# EAGLE library part TPPM0110DWPR (library 477_LIBRARY)
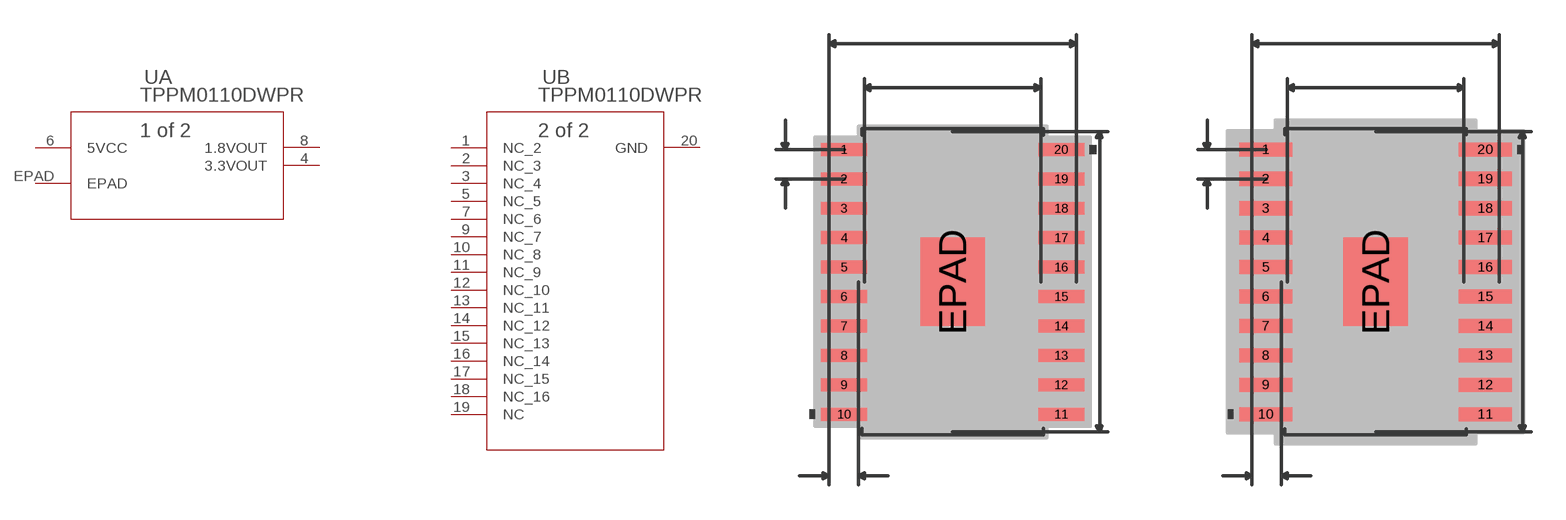
[diagram p3: symbol with the pads of DWP20_3P81X2P79; footprints DWP20_3P81X2P79, DWP20_3P81X2P79-M]

Designator prefix U; gates A=TPPM0110DWPRG4 B=TPPM0110DWPRG4_A

## TPPM0110DWPR (MANUFACTURER_PART_NUMBER: TPPM0110DWPR; VENDOR: Texas Instruments)  [DWP20_3P81X2P79]
1  B:NC_2  pas
2  B:NC_3  pas
3  B:NC_4  pas
4  A:3.3VOUT  out
5  B:NC_5  pas
6  A:5VCC  in
7  B:NC_6  pas
8  A:1.8VOUT  out
9  B:NC_7  pas
10  B:NC_8  pas
11  B:NC_9  pas
12  B:NC_10  pas
13  B:NC_11  pas
14  B:NC_12  pas
15  B:NC_13  pas
16  B:NC_14  pas
17  B:NC_15  pas
18  B:NC_16  pas
19  B:NC  pas
20  B:GND  pwr
EPAD  A:EPAD  pas

## TPPM0110DWPRDWP20_3P81X2P79-M (MANUFACTURER_PART_NUMBER: TPPM0110DWPR; VENDOR: Texas Instruments)  [DWP20_3P81X2P79-M]
Pads as for DWP20_3P81X2P79

## TPPM0110DWPRDWP20_3P81X2P79-L (MANUFACTURER_PART_NUMBER: TPPM0110DWPR; VENDOR: Texas Instruments)  [DWP20_3P81X2P79-L]
Pads as for DWP20_3P81X2P79

## Footprint DWP20_3P81X2P79 (pad centres in mm)
smd 1.981 x 0.559: 1 -4.686,5.715; 2 -4.686,4.445; 3 -4.686,3.175; 4 -4.686,1.905; 5 -4.686,0.635; 6 -4.686,-0.635; 7 -4.686,-1.905; 8 -4.686,-3.175; 9 -4.686,-4.445; 10 -4.686,-5.715; 11 4.686,-5.715; 12 4.686,-4.445; 13 4.686,-3.175; 14 4.686,-1.905; 15 4.686,-0.635; 16 4.686,0.635; 17 4.686,1.905; 18 4.686,3.175; 19 4.686,4.445; 20 4.686,5.715
smd 2.79 x 3.81: EPAD 0,0

## Footprint DWP20_3P81X2P79-M (pad centres in mm)
smd 2.286 x 0.61: 1 -4.737,5.715; 2 -4.737,4.445; 3 -4.737,3.175; 4 -4.737,1.905; 5 -4.737,0.635; 6 -4.737,-0.635; 7 -4.737,-1.905; 8 -4.737,-3.175; 9 -4.737,-4.445; 10 -4.737,-5.715; 11 4.737,-5.715; 12 4.737,-4.445; 13 4.737,-3.175; 14 4.737,-1.905; 15 4.737,-0.635; 16 4.737,0.635; 17 4.737,1.905; 18 4.737,3.175; 19 4.737,4.445; 20 4.737,5.715
smd 2.79 x 3.81: EPAD 0,0

## Footprint DWP20_3P81X2P79-L (pad centres in mm)
smd 1.676 x 0.508: 1 -4.636,5.715; 2 -4.636,4.445; 3 -4.636,3.175; 4 -4.636,1.905; 5 -4.636,0.635; 6 -4.636,-0.635; 7 -4.636,-1.905; 8 -4.636,-3.175; 9 -4.636,-4.445; 10 -4.636,-5.715; 11 4.636,-5.715; 12 4.636,-4.445; 13 4.636,-3.175; 14 4.636,-1.905; 15 4.636,-0.635; 16 4.636,0.635; 17 4.636,1.905; 18 4.636,3.175; 19 4.636,4.445; 20 4.636,5.715
smd 2.79 x 3.81: EPAD 0,0